# EAGLE library part INA818 (library IC_Linear)
Precision Instrumentation Amplifier Reference Datasheet <https://www.ti.com/lit/ds/symlink/ina818.pdf?ts=1645723796634&ref_url=https%253A%252F%252Fwww.google.com%252F>
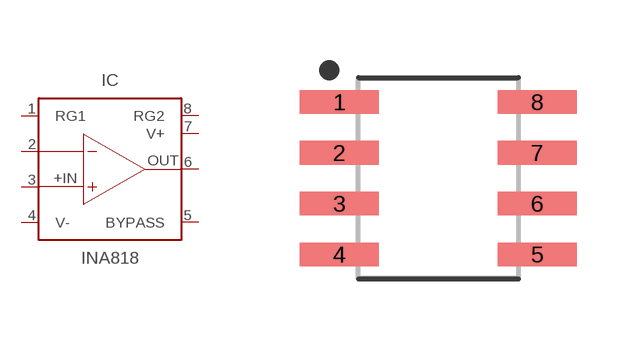
[diagram p19: symbol with the pads of SOIC127P600X175-8N; footprint SOIC127P600X175-8N]

Designator prefix IC

## INA818_SOIC (CATEGORY: Instrumentation Amplifiers; DESCRIPTION: Instrumentation Amplifiers Low power (350- uA), precision instrumentation amp with +/-60-V overvoltage protection (gain pins 1, 8) 8-SOIC -40 to 125; MANUFACTURER: Texas Instruments; MPN: INA818IDR; OPERATING_TEMP: -40°C ~ 125°C; PART_STATUS: Active; ROHS_COMPLIANT: ROHS3 Compliant; SERIES: INA818; SUB-CATEGORY: Amplier ICs; TYPE: Instrumentation; VALUE: INA818)  [SOIC127P600X175-8N]
1  RG1  pas
2  -IN  in
3  +IN  in
4  V-
5  BYPASS  pas
6  OUT  out
7  V+
8  RG2  pas

## Footprint SOIC127P600X175-8N (pad centres in mm)
8-SOIC, 1.27 mm pitch, 6.00 mm span, 4.90 X 3.90 X 1.75 mm body 8-pin SOIC package with 1.27 mm pitch, 6.00 mm span with body size 4.90 X 3.90 X 1.75 mm
smd 1.969 x 0.592: 1 -2.474,1.905; 2 -2.474,0.635; 3 -2.474,-0.635; 4 -2.474,-1.905; 5 2.474,-1.905; 6 2.474,-0.635; 7 2.474,0.635; 8 2.474,1.905